# EAGLE library part _IC_LIN_TRX_SOP-I8_(BD41030FJ) (library SamacSys_Parts)
LIN Transceivers LIN Transceiver SOP-J8 5-27V Source: Datasheet <https://componentsearchengine.com/Datasheets/1/BD41030FJ-CGE2.pdf>
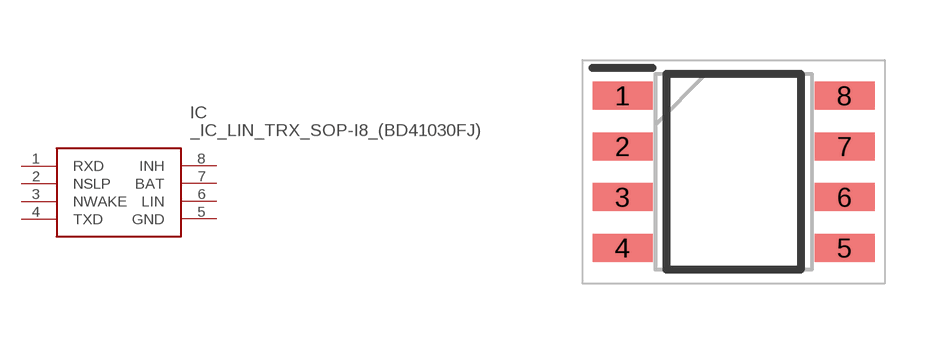
[diagram p25: symbol with the pads of SOIC127P600X165-8N; footprint SOIC127P600X165-8N]

Designator prefix IC

## _IC_LIN_TRX_SOP-I8_(BD41030FJ) (DESCRIPTION: LIN Transceivers LIN Transceiver SOP-J8 5-27V; HEIGHT: 1.65mm; MANUFACTURER_NAME: ROHM Semiconductor; MANUFACTURER_PART_NUMBER: BD41030FJ-CGE2; MOUSER_PART_NUMBER: 755-BD41030FJ-CGE2; MOUSER_PRICE-STOCK: https://www.mouser.com/Search/Refine.aspx?Keyword=755-BD41030FJ-CGE2)  [SOIC127P600X165-8N]
1  RXD
2  NSLP
3  NWAKE
4  TXD
5  GND
6  LIN
7  BAT
8  INH

## Footprint SOIC127P600X165-8N (pad centres in mm)
SOP-J8-14
smd 1.5 x 0.7: 1 -2.775,1.905; 2 -2.775,0.635; 3 -2.775,-0.635; 4 -2.775,-1.905; 5 2.775,-1.905; 6 2.775,-0.635; 7 2.775,0.635; 8 2.775,1.905